# Altium footprint library CPAV.PcbLib: 150 footprints (part 2 of 10)
Each footprint in its own frame and in the unit in brackets; x right, y up, seen from the top. Pads: shape width x height; smd on the part's side, far side on the other; paste and mask are expansions set on the pad; w line width, h text height; cw(c..) or ccw(c..) is an arc to the next point about the centre after c.
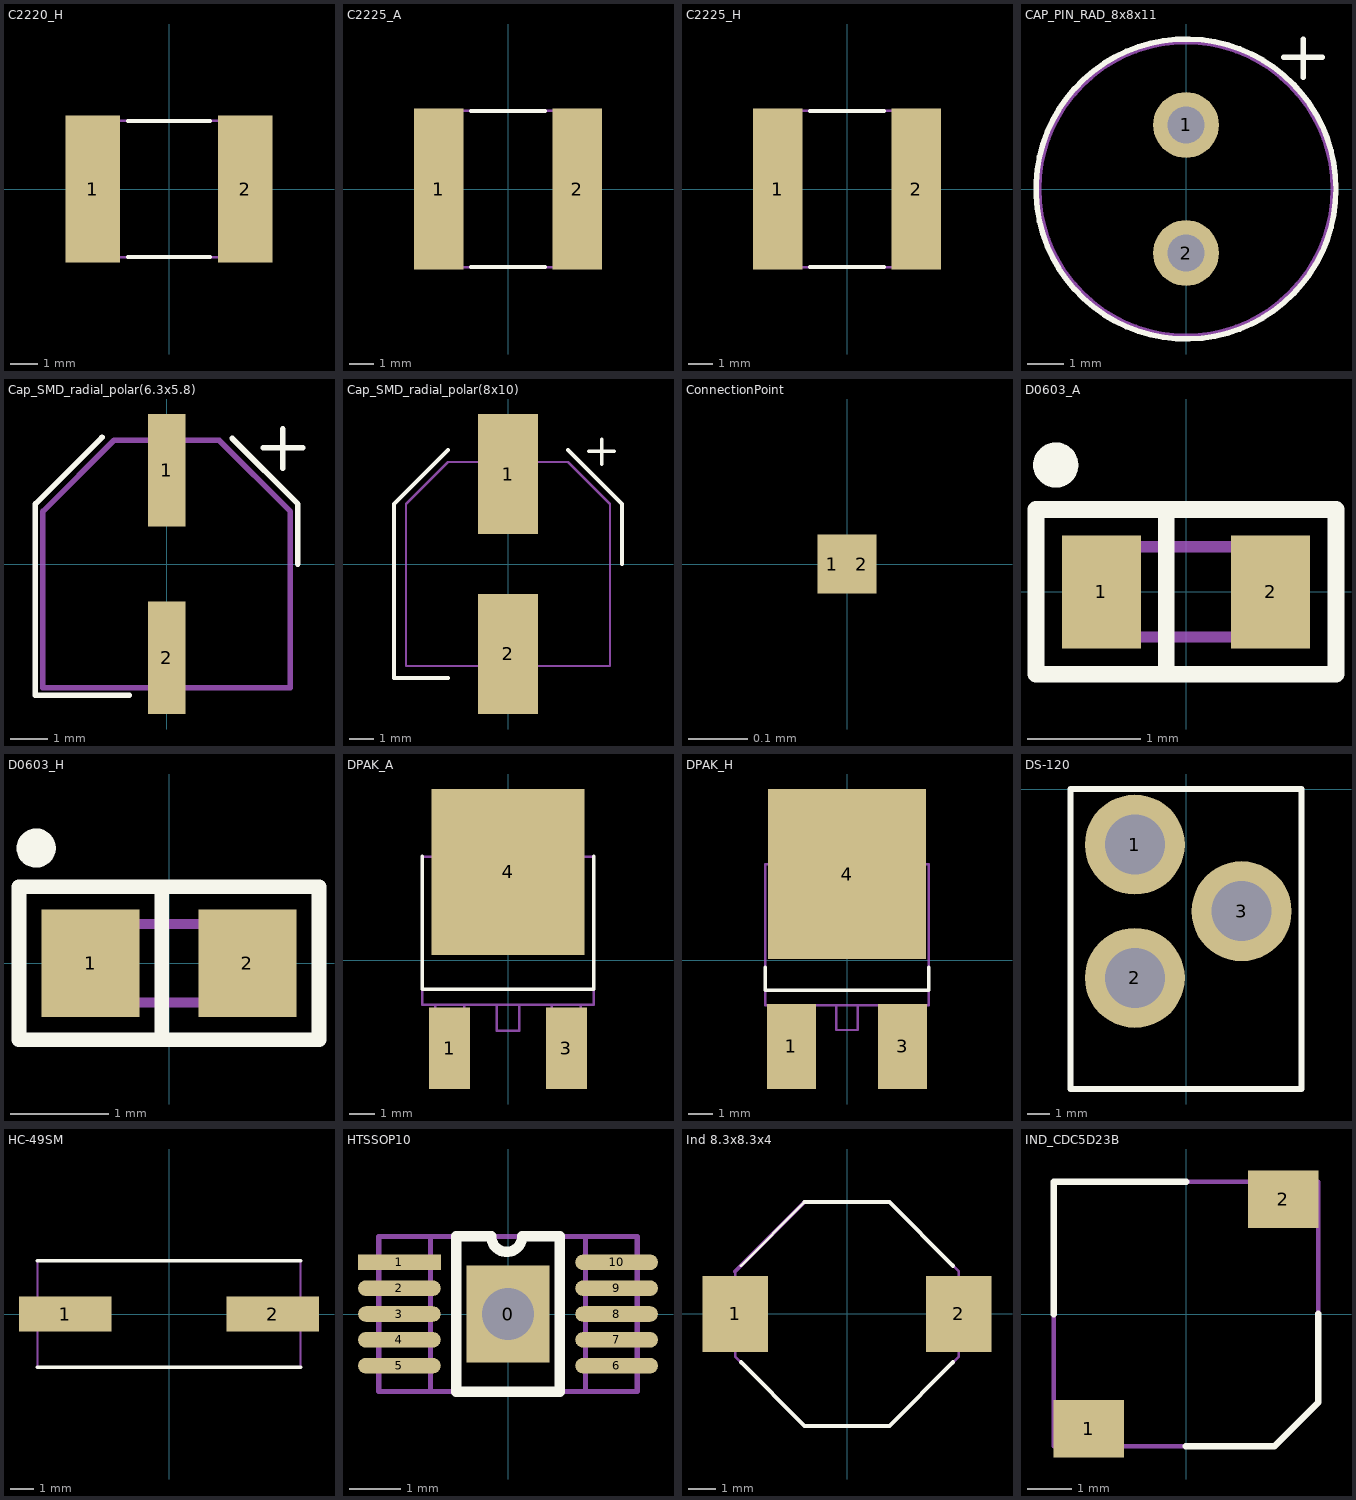
[diagram p1: the footprints below, top view; thin cyan lines are the x and y axes]

## C2220_H [mm]
height 1.8
pads (2):
  rect 2x5.4 smd: 1(-2.8,0) 2(2.8,0)
Top Overlay:
  lines w0.15: -1.5,-2.5 1.5,-2.5 ; -1.5,2.5 1.5,2.5
Mechanical 7:
  lines w0.1: -2.8,-2.5 2.8,-2.5 2.8,2.5 -2.8,2.5 -2.8,-2.5
Mechanical 10:
  text ".Comment" at -0.47,-3.45 h0.6
  text ".Designator" at -0.56,3.04 h0.8
3D body: height 1.8, standoff 0, extent -2.8,-2.5 2.8,2.5

## C2225_A [mm]
height 2
pads (2):
  rect 2x6.5 smd: 1(-2.8,0) 2(2.8,0)
Top Overlay:
  lines w0.15: -1.5,-3.15 1.5,-3.15 ; -1.5,3.15 1.5,3.15
Mechanical 7:
  lines w0.1: -2.8,-3.15 2.8,-3.15 2.8,3.15 -2.8,3.15 -2.8,-3.15
Mechanical 10:
  text ".Designator" at -0.59,3.58 h0.8
  text ".Comment" at -0.46,-4 h0.6
3D body: height 2, standoff 0, extent -2.8,-3.15 2.8,3.15

## C2225_H [mm]
height 2
pads (2):
  rect 2x6.5 smd: 1(-2.8,0) 2(2.8,0)
Top Overlay:
  lines w0.15: -1.5,-3.15 1.5,-3.15 ; -1.5,3.15 1.5,3.15
Mechanical 7:
  lines w0.1: -2.8,-3.15 2.8,-3.15 2.8,3.15 -2.8,3.15 -2.8,-3.15
Mechanical 10:
  text ".Comment" at -0.42,-3.91 h0.6
  text ".Designator" at -0.59,3.58 h0.8
3D body: height 2, standoff 0, extent -2.8,-3.15 2.8,3.15

## CAP_PIN_RAD_8x8x11 [mm]
pads (2):
  round 1.8 hole 1: 1(0,1.75) 2(0,-1.75)
Top Overlay:
  circle w0.15: c0,0 r4.1
  lines w0.15: 2.675,3.6 3.725,3.6 ; 3.2,3.05 3.2,4.1
Mechanical 7:
  circle w0.1: c0,0 r4
Mechanical 9:
  circle w0.1: c0,0 r4
3D body: height 12, standoff 0.5, extent -3.968,-3.992 4,3.992

## Cap_SMD_radial_polar(6.3x5.8) [mm]
pads (2):
  rect 1x3 smd: 1(0,2.5) 2(0,-2.5)
Top Overlay:
  lines w0.15: -1.725,3.375 -3.5,1.6 -3.5,-3.5 -1,-3.5 ; 1.75,3.35 3.5,1.6 3.5,0 ; 2.575,3.1 3.625,3.1 ; 3.1,2.55 3.1,3.6
Mechanical 7:
  lines w0.15: -3.3,-3.3 3.3,-3.3 3.3,1.4 1.4,3.3 -1.4,3.3 -3.3,1.4 -3.3,-3.3
3D body: height 0.3, standoff 0, extent -3.3,-3.3 3.3,3.3
3D body: height 6.1, standoff 0.3, extent -3.125,-3.144 3.15,3.144

## Cap_SMD_radial_polar(8x10) [mm] "8x10"
height 10
pads (2):
  rect 2.5x5 smd: 1(0,3.75) 2(0,-3.75)
Top Overlay:
  lines w0.15: -2.5,-4.75 -4.75,-4.75 -4.75,-4.25 -4.75,2.5 -2.5,4.75 ; 2.5,4.75 4.75,2.5 4.75,0 ; 3.375,4.7 4.425,4.7 ; 3.9,4.15 3.9,5.2
Mechanical 7:
  lines w0.1: -4.25,-4.25 -4.25,2.5 -2.5,4.25 2.5,4.25 4.25,2.5 4.25,-4.25 -4.25,-4.25
3D body "User Library-ALU-F.STEP": height 10.2, standoff 0, extent -4.15,-4.95 4.15,4.95

## ConnectionPoint [mm]
pads (2):
  rect 0.05x0.1 smd paste+0 mask-0.1: 1(-0.025,0) 2(0.025,0)

## D0603_A [mm]
height 1.1
pads (2):
  rect 0.7x1 smd: 1(-0.75,0) 2(0.75,0)
Top Overlay:
  circle w0.2: c-1.155,1.125 r0.1
  lines w0.15: -0.175,-0.73 -0.175,0.73 ; -1.33,-0.73 1.33,-0.73 1.33,0.73 -1.33,0.73 -1.33,-0.73
Mechanical 7:
  lines w0.1: -0.7,-0.4 -0.7,0.4 ; -0.6,-0.4 -0.6,0.4 ; -0.5,-0.4 -0.5,0.4 ; -0.8,-0.4 -0.8,0.4 0.8,0.4 0.8,-0.4 -0.8,-0.4
Mechanical 10:
  text ".Designator" at -0.62,1 h0.8
  text ".Comment" at -0.75,-1.28 h0.6
3D body: height 1.1, standoff 0, extent -0.8,-0.4 0.8,0.4

## D0603_H [mm]
height 1.1
pads (2):
  rect 1x1.1 smd: 1(-0.8,0) 2(0.8,0)
Top Overlay:
  circle w0.2: c-1.355,1.175 r0.1
  lines w0.15: -0.075,-0.78 -0.075,0.78 ; -1.53,-0.78 1.53,-0.78 1.53,0.78 -1.53,0.78 -1.53,-0.78
Mechanical 7:
  lines w0.1: -0.7,-0.4 -0.7,0.4 ; -0.6,-0.4 -0.6,0.4 ; -0.5,-0.4 -0.5,0.4 ; -0.8,-0.4 -0.8,0.4 0.8,0.4 0.8,-0.4 -0.8,-0.4
Mechanical 10:
  text ".Comment" at -0.61,-1.33 h0.6
  text ".Designator" at -0.62,1 h0.8
3D body: height 1.1, standoff 0, extent -0.8,-0.4 0.8,0.4

## DPAK_A [mm]
height 2.4
pads (3):
  rect 1.6x3.2 smd: 1(-2.285,-3.45) 3(2.285,-3.45)
  rect 6x6.5 smd: 4(0,3.45)
Top Overlay:
  lines w0.15: -3.36,4.05 -3.36,-1.14 3.36,-1.14 3.36,4.05
Mechanical 7:
  lines w0.1: -2.855,-1.75 -2.855,-4.34 -1.715,-4.34 -1.715,-1.75 ; -2.73,4.05 -2.73,6.08 2.73,6.08 2.73,4.05 ; -0.44,-1.75 -0.44,-2.77 0.44,-2.77 0.44,-1.75 ; 1.715,-1.75 1.715,-4.34 2.855,-4.34 2.855,-1.75 ; -3.36,-1.75 -3.36,4.05 3.36,4.05 3.36,-1.75 -3.36,-1.75
Mechanical 10:
  text ".Designator" at -0.8,7.82 h0.8
  text ".Comment" at -0.73,7.09 h0.6
3D body: height 1.5, standoff 0.5, extent -0.44,-2.77 0.44,-1.75
3D body: height 1.5, standoff 0, extent 1.715,-4.34 2.855,-1.75
3D body: height 1.5, standoff 0, extent -2.855,-4.34 -1.715,-1.75
3D body: height 0.7, standoff 0, extent -2.73,4.05 2.73,6.08
3D body: height 2.4, standoff 0, extent -3.36,-1.75 3.36,4.05

## DPAK_H [mm]
height 2.4
pads (3):
  rect 2x3.5 smd: 1(-2.285,-3.55) 3(2.285,-3.55)
  rect 6.5x7 smd: 4(0,3.55)
Top Overlay:
  lines w0.15: -3.36,-0.3 -3.36,-1.24 3.36,-1.24 3.36,-0.3
Mechanical 7:
  lines w0.1: -2.855,-1.85 -2.855,-4.44 -1.715,-4.44 -1.715,-1.85 ; -2.73,3.95 -2.73,5.98 2.73,5.98 2.73,3.95 ; -0.44,-1.85 -0.44,-2.87 0.44,-2.87 0.44,-1.85 ; 1.715,-1.85 1.715,-4.44 2.855,-4.44 2.855,-1.85 ; -3.36,-1.85 -3.36,3.95 3.36,3.95 3.36,-1.85 -3.36,-1.85
Mechanical 10:
  text ".Comment" at -0.73,7.63 h0.6
  text ".Designator" at -0.85,8.28 h0.8
3D body: height 2.4, standoff 0, extent -3.36,-1.85 3.36,3.95
3D body: height 0.7, standoff 0, extent -2.73,3.95 2.73,5.98
3D body: height 1.5, standoff 0, extent -2.855,-4.44 -1.715,-1.85
3D body: height 1.5, standoff 0, extent 1.715,-4.44 2.855,-1.85
3D body: height 1.5, standoff 0.5, extent -0.44,-2.87 0.44,-1.85

## DS-120 [mm]
pads (3):
  round 4.5 hole 2.7: 1(-2.3,-2.5) 2(-2.3,-8.5) 3(2.5,-5.5)
Top Overlay:
  lines w0.254: -5.2,-13.5 5.2,-13.5 5.2,0 -5.2,0 -5.2,-13.5

## HC-49SM [mm] "Кварцевый резонатор поверхностного монтажа"
pads (2):
  rect 4x1.5 smd: 1(-4.5,0) 2(4.5,0)
Top Overlay:
  lines w0.15: -5.7,-2.3 5.7,-2.3 ; -5.7,2.3 5.7,2.3
Mechanical 7:
  lines w0.1: -5.7,-2.3 -5.7,2.3 5.7,2.3 5.7,-2.3 -5.7,-2.3
3D body: height 0.7, standoff 0, extent -5.7,-2.3 5.7,2.3
3D body: height 5, standoff 0, extent -5.5,-2 5.5,2

## HTSSOP10 [mm]
pads (11):
  rect 1.6x1.88 hole 1: 0(0,0)
  rect 1.6x0.3 smd: 1(-2.1,1)
  oval 1.6x0.3 smd: 2(-2.1,0.5) 3(-2.1,0) 4(-2.1,-0.5) 5(-2.1,-1) 6(2.1,-1) 7(2.1,-0.5) 8(2.1,0) 9(2.1,0.5) 10(2.1,1)
Top Overlay:
  lines w0.2: -0.375,1.5 -1,1.5 -1,-1.5 1,-1.5 1,1.5 0.375,1.5 0.275,1.5 cw(c-0.025,1.5) -0.325,1.5
Mechanical 7:
  lines w0.1: -1.5,-1.5 -2.5,-1.5 -2.5,1.5 -1.5,1.5 ; -1.5,-1.5 1.5,-1.5 ; -1.5,-1.5 -1.5,1.5 ; -1.5,1.5 1.5,1.5 ; 1.5,-1.5 2.5,-1.5 2.5,1.5 1.5,1.5 ; 1.5,-1.5 1.5,1.5
3D body: height 1.1, standoff 0.1, extent -1.5,-1.5 1.5,1.5
3D body: height 0.4, standoff 0, extent -2.5,-1.5 -1.5,1.5
3D body: height 0.4, standoff 0, extent 1.5,-1.5 2.5,1.5

## Ind 8.3x8.3x4 [mm]
pads (2):
  rect 2.4x2.8 smd: 1(-4.1,0) 2(4.1,0)
Top Overlay:
  lines w0.1: -3.889,1.768 -1.556,4.101
  lines w0.15: -3.889,-1.768 -1.556,-4.101 1.556,-4.101 3.889,-1.768 ; -1.556,4.101 1.556,4.101 3.889,1.768
Mechanical 7:
  lines w0.1: -4.101,1.556 -4.101,-1.556 -1.556,-4.101 1.556,-4.101 4.101,-1.556 4.101,1.556 1.556,4.101 -1.556,4.101
  lines w0.15: -4.101,1.556 -1.556,4.101
Mechanical 10:
  text ".Designator" at -1.5,5.2 h0.8
  text ".Comment" at -1.2,-5.3 h0.6
3D body: height 4, standoff 0.15, extent -4.101,-4.101 4.101,4.101

## IND_CDC5D23B [mm]
pads (2):
  rect 1.6x1.3 smd: 1(-2.2,-2.6) 2(2.2,2.6)
Top Overlay:
  lines w0.15: -3,0 -3,3 0,3 ; 0,-3 2,-3 3,-2 3,0
Mechanical 7:
  lines w0.1: -3,-3 2,-3 3,-2 3,3 -3,3 -3,-2.5 -3,-3
Mechanical 10:
  text ".Designator" at -0.985,0.276 h0.8
  text ".Comment" at -0.985,-0.414 h0.6
3D body: height 2.5, standoff 0, extent -3,-3 3,3